# Altium schematic symbol library Transistors.SchLib: 4 symbols
Pins are listed as number, name and electrical type; pins without a type are passive.

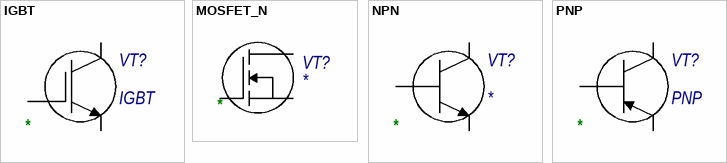
[diagram p0: symbols IGBT to PNP]

## IGBT
designator VT?
IGBT N-канал; ValueDescription: *; ValueManufacturer: *; ValueManufacturerPartNumber: *; ValueType: *; Value: *
pins: 1 E, 2 G, 3 C

## MOSFET_N
designator VT?
Полевой N-канал; ValueDescription: *; ValueManufacturer: *; ValueManufacturerPartNumber: *; ValueType: *; Value: *
pins: D, G, S

## NPN
designator VT?
Биполярный NPN; ValueDescription: *; ValueManufacturer: *; ValueManufacturerPartNumber: *; ValueType: *; Value: *
pins: 1 B, 2 E, 3 C

## PNP
designator VT?
Биполярный PNP; ValueDescription: *; ValueManufacturer: *; ValueManufacturerPartNumber: *; ValueType: *; Value: *
pins: 1 E, 2 B, 3 C